# Altium schematic symbol library TL431.SchLib: 1 symbol
Pins are listed as number, name and electrical type; pins without a type are passive.

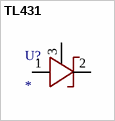
[diagram p0: symbol TL431]

## TL431
designator U?
footprint SOIC-8N
footprint TO-92
pins: 1, 2, 3